# Altium footprint library GS66508T_650V_30A.PcbLib: 1 footprints
Each footprint in its own frame and in the unit in brackets; x right, y up, seen from the top. Pads: shape width x height; smd on the part's side, far side on the other; paste and mask are expansions set on the pad; w line width, h text height; cw(c..) or ccw(c..) is an arc to the next point about the centre after c.
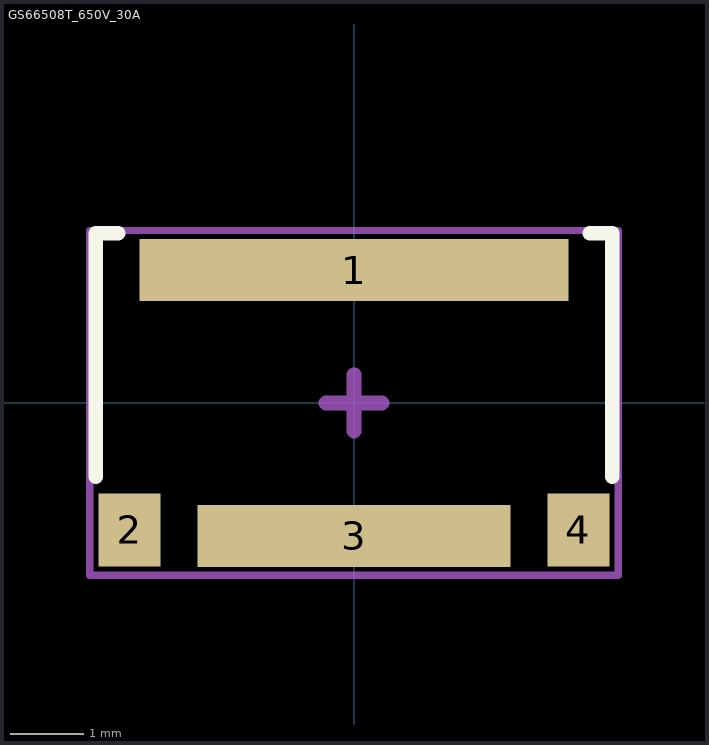
[diagram p0: the footprint, top view; thin cyan lines are the x and y axes]

## GS66508T_650V_30A [mm] "GAN TRANS EMODE 650V 30A TOP SIDE COOL"
height 0.5
pads (4):
  rect 5.81x0.84 smd paste-0.1: 1(0,1.8)
  rect 0.84x0.99 smd paste-0.1: 2(-3.04,-1.72)
  rect 4.24x0.84 smd paste-0.1: 3(0,-1.8)
  rect 0.84x0.99 smd: 4(3.04,-1.72)
Top Overlay:
  lines w0.2: -3.5,-1 -3.5,2.3 -3.2,2.3 ; 3.2,2.3 3.5,2.3 3.5,-1
Bottom Assembly:
  text ".Designator" at -3.404,-0.356 h1.5
Mechanical 9:
  lines w0.1: -3.581,-2.337 3.581,-2.337 3.581,2.337 -3.581,2.337 -3.581,-2.337
Mechanical 10:
  lines w0.1: -3.581,-2.337 -3.581,2.337 3.581,2.337 3.581,-2.337 -3.581,-2.337
  lines w0.2: -0.381,0 0.381,0 ; 0,-0.381 0,0.381
Mechanical 12:
  text ".Comment" at -3.404,-0.356 h1.5
3D body "GS66508T.stp": height 0.5, standoff -0.04, extent -3.468,-2.225 3.468,2.235